# Altium schematic symbol library LEDs.SchLib: 22 symbols
Pins are listed as number, name and electrical type; pins without a type are passive.

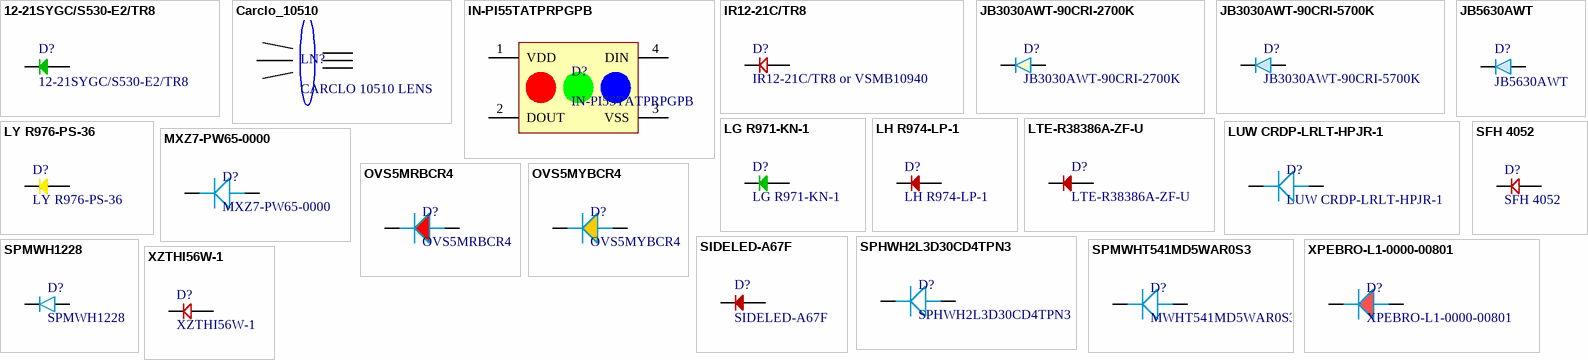
[diagram p0: symbols 12-21SYGC/S530-E2/TR8 to XZTHI56W-1]

## 12-21SYGC/S530-E2/TR8
designator D?
LED YLW/GRN CLEAR CHIP SMD R/A; Supplier 2: Mouser; Supplier 3: Arrow; Supplier Part Number 1: 1080-1451-1-ND; Supplier Part Number 2: 638-1221SYGCS530E2; Supplier Part Number 3: 12-21SYGC/S530-E2/TR8; Supplier 1: Digi-Key
footprint 12-21SYGC/S530-E2/TR8
pins: A, C

## Carclo_10510
designator LN?, comment CARCLO 10510 LENS
3x LED Optic, Wide-beam TIR; Supplier 1: Digi-Key; Supplier Part Number 1: 1066-1057-ND
footprint CARCLO_10510

## IN-PI55TATPRPGPB
designator D?
ADDRESS LED DISCRETE SERIAL RGB; Supplier 1: Digi-Key; Supplier 2: Arrow; Supplier 3: Mouser; Supplier Part Number 1: 1830-1204-1-ND; Supplier Part Number 2: IN-PI55TATPRPGPB; Supplier Part Number 3: 743-IN-PI55TATPRPGPB
footprint IN-PI55TATPRPGPB
pins: 1 VDD, 2 DOUT, 3 VSS, 4 DIN

## IR12-21C/TR8
designator D?, comment IR12-21C/TR8 or VSMB10940
Infrared (IR) Emitter 880nm 1.3V 50mA 1mW/sr @ 20mA 30° 2-SMD, No Lead; Supplier 1: Digi-Key; Supplier 2: Mouser; Supplier 3: Digi-Key; Supplier 4: Mouser; Supplier 5: Arrow; Supplier Part Number 1: 1080-1351-1-ND; Supplier Part Number 2: 638-IR12-21C; Supplier Part Number 3: VSMB10940CT-ND; Supplier Part Number 4: 78-VSMB10940; Supplier Part Number 5: VSMB10940
footprint IR12-21C/TR8
pins: A, C

## JB3030AWT-90CRI-2700K
designator D?
LED Lighting J White, Warm 2700K 2.8V 65mA 120° 1212 (3030 Metric); Supplier 1: DigiKey; Supplier Part Number 1: 2138-JB3030AWT-P-U27EA0000-N0000001CT-ND
footprint JB3030AWT
pins: 1 A, 2 C

## JB3030AWT-90CRI-5700K
designator D?
LED Lighting J White, Cool 5700K 2.8V 65mA 120° 1212 (3030 Metric); Supplier 1: Mouser; Supplier 2: DigiKey; Supplier Part Number 2: 2138-JB3030AWT-P-U57EA0000-N0000001CT-ND; Supplier Part Number 1: 941-JB3030W00A0UC557
footprint JB3030AWT - cool
pins: 1 A, 2 C

## JB5630AWT
designator D?
LED Lighting J White, 5630 Size; Supplier 1: Digi-Key; Supplier Part Number 1: 2138-JB5630AWT-P-H40GA0000-NZ000001CT-ND
footprint JB5630AWT
pins: A, C

## LG R971-KN-1
designator D?
0805 SMT LED, Green; Supplier 1: Digi-Key; Supplier Part Number 1: 475-1410-1-ND
footprint 0805_LED (Chip Capacitor, 2-Leads, Body 2.0x1.3mm, IPC Medium Density)
pins: 1 C, 2 A

## LH R974-LP-1
designator D?
0805 SMT LED, Red; Supplier 1: Digi-Key; Supplier Part Number 1: 475-1415-1-ND
footprint 0805_LED (Chip Capacitor, 2-Leads, Body 2.0x1.3mm, IPC Medium Density)
pins: 1 C, 2 A

## LTE-R38386A-ZF-U
designator D?
Infrared Emitters High Power IR SMD LED; Supplier 1: Digi-Key; Supplier 2: Mouser; Supplier Part Number 1: 160-2201-1-ND; Supplier Part Number 2: 859-LTER38386AZFU
footprint LTE-R38386A-ZF-U (Standard thermally relieved footprint for domed 1414 (3535) 1W LEDs.)
pins: A, C

## LUW CRDP-LRLT-HPJR-1
designator D?
Oslon SSL150 1W White LED w/ lens
footprint LUW CRDP-LRLT-HPJR-1
pins: 1 C, 2 A

## LY R976-PS-36
designator D?
0805 SMT LED, Yellow; Supplier 1: Digi-Key; Supplier Part Number 1: 475-2560-1-ND
footprint 0805_LED (Chip Capacitor, 2-Leads, Body 2.0x1.3mm, IPC Medium Density)
pins: 1 C, 2 A

## MXZ7-PW65-0000
designator D?
0.2W white LED; Supplier 1: Digi-Key; Supplier Part Number 1: 1416-1249-1-ND
footprint MXZ7-PW65-0000
pins: 1 C, 2 A

## OVS5MRBCR4
designator D?
Red LED, 5600mcd; Supplier 1: Mouser; Supplier Part Number 1: 828-OVS5MRBCR4; Supplier 2: Digi-Key; Supplier Part Number 2: 365-1546-1-ND
footprint OVS5MxBCR4
pins: 1 C, 2 A

## OVS5MYBCR4
designator D?
Yellow LED, 5600mcd; Supplier 1: Digi-Key; Supplier Part Number 1: 365-1549-1-ND; Supplier 2: Mouser; Supplier Part Number 2: 828-OVS5MYBCR4
footprint OVS5MxBCR4
pins: 1 C, 2 A

## SFH 4052
designator D?
Infrared (IR) Emitter 850nm 1206
footprint Osram SFH 4052 - DIOC3216X12M (Chip Diode, 2-Leads, Body 3.20x1.60mm, IPC Low Density)
pins: A, C

## SIDELED-A67F
designator D?
Red/Orange/Yellow Side-facing SMT LEDs, high brightness (~2lm); Supplier 2: Digi-Key; Supplier Part Number 2: 475-3415-6-ND; Supplier 1: Digi-Key; Supplier Part Number 1: 475-3392-1-ND
footprint SIDELED-A67F
pins: A, C

## SPHWH2L3D30CD4TPN3
designator D?
LED: White, 4000K 2.8V 350mA 120° 1414; Supplier 1: Digi-Key; Supplier Part Number 1: 1510-1782-1-ND
footprint 1414 LED (Standard thermally relieved footprint for domed 1414 (3535) 1W LEDs.)
pins: 1 C, 2 A

## SPMWH1228
designator D?
3V/0.5W white LED, 2.8mm x 3.5mm; Supplier 2: Digi-Key; Supplier Part Number 2: 1510-1428-1-ND; Supplier 3: Digi-Key; Supplier Part Number 3: 1510-1429-1-ND; Supplier 1: Arrow
footprint SPMWH1228
pins: 1 A, 2 C

## SPMWHT541MD5WAR0S3
designator D?, comment MWHT541MD5WAR0S3
footprint SPMWHT541MD5WAR0S3
pins: 1 C, 2 A

## XPEBRO-L1-0000-00801
designator D?
XLamp® XP-E2 Red-Orange 615nm (610nm ~ 620nm) 1414 (3535 Metric); Supplier 1: Digi-Key; Supplier Part Number 1: XPEBRO-L1-0000-00801CT-ND
footprint 1414 LED (Standard thermally relieved footprint for domed 1414 (3535) 1W LEDs.)
pins: 1 C, 2 A

## XZTHI56W-1
designator D?
Infrared (IR) Emitter 880nm 1.3V 50mA 1mW/sr @ 20mA 30° 2-SMD, No Lead; Supplier 1: Digi-Key; Supplier Part Number 1: 1497-1205-1-ND
footprint XZTHI56W-1
pins: A, C